# Altium footprint library USBridge.PcbLib: 26 footprints (part 2 of 2)
Each footprint in its own frame and in the unit in brackets; x right, y up, seen from the top. Pads: shape width x height; smd on the part's side, far side on the other; paste and mask are expansions set on the pad; w line width, h text height; cw(c..) or ccw(c..) is an arc to the next point about the centre after c.
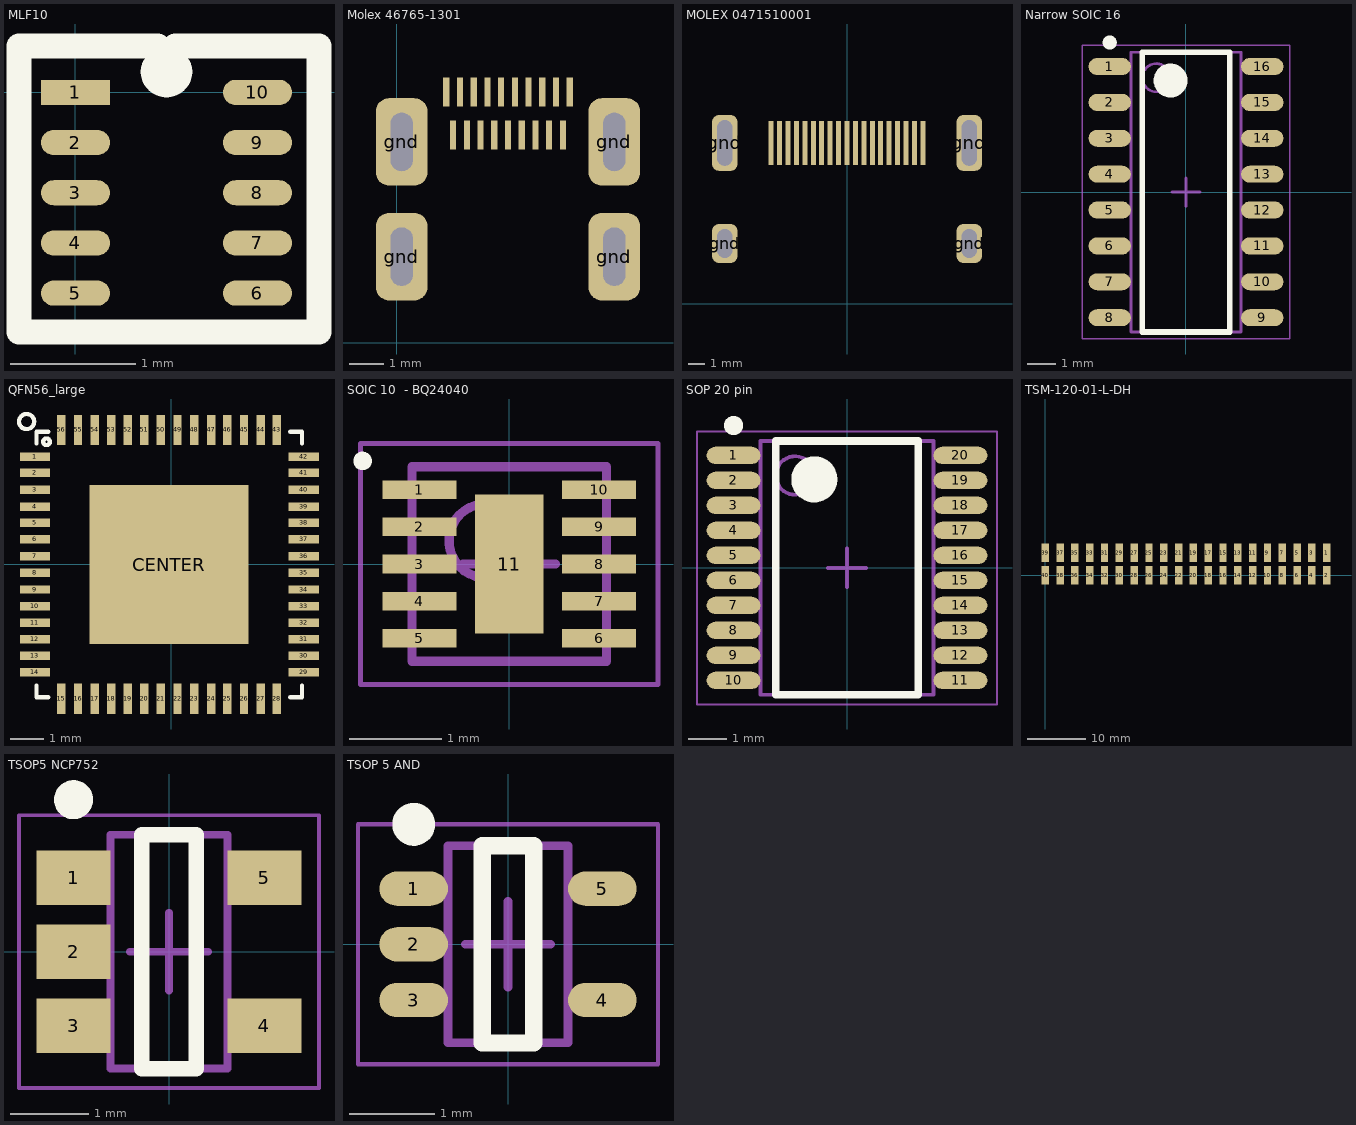
[diagram p1: the footprints below, top view; thin cyan lines are the x and y axes]

## MLF10 [mm] "MIC23250 light load buck converter 2 output"
pads (10):
  rect 0.55x0.2 smd: 1(0,0)
  oval 0.55x0.2 smd: 2(0,-0.4) 3(0,-0.8) 4(0,-1.2) 5(0,-1.6) 6(1.45,-1.6) 7(1.45,-1.2) 8(1.45,-0.8) 9(1.45,-0.4) 10(1.45,0)
Top Overlay:
  lines w0.2: -0.45,-1.91 -0.45,0.37 0.655,0.37 0.825,0.2 cw(c0.725,0.166) 0.625,0.2 0.795,0.37 1.94,0.37 1.94,-1.91 -0.45,-1.91

## Molex 46765-1301 [mm] "Micro HDMI"
height 4
pads (23):
  rect 0.18x0.85 smd: 1(5.05,7.31) 2(4.85,6.06) 3(4.65,7.31) 4(4.45,6.06) 5(4.25,7.31) 6(4.05,6.06) 7(3.85,7.31) 8(3.65,6.06) 9(3.45,7.31) 10(3.25,6.06) 11(3.05,7.31) 12(2.85,6.06) 13(2.65,7.31) 14(2.45,6.06) 15(2.25,7.31) 16(2.05,6.06) 17(1.85,7.31) 18(1.65,6.06) 19(1.45,7.31)
  rrect50% 1.5x2.55 hole 0.65 slot 1.7 at 90 deg: gnd(0.15,2.51) gnd(0.15,5.86) gnd(6.35,2.51) gnd(6.35,5.86)
3D body: height 2.92, standoff -0.6, extent 0,0 6.5,7.5

## MOLEX 0471510001 [mm] "HDMI connector"
height 7
pads (23):
  rect 0.3x2.6 smd: 1(4.5,9.55) 2(4,9.55) 3(3.5,9.55) 4(3,9.55) 5(2.5,9.55) 6(2,9.55) 7(1.5,9.55) 8(1,9.55) 9(0.5,9.55) 10(0,9.55) 11(-0.5,9.55) 12(-1,9.55) 13(-1.5,9.55) 14(-2,9.55) 15(-2.5,9.55) 16(-3,9.55) 17(-3.5,9.55) 18(-4,9.55) 19(-4.5,9.55)
  rrect50% 1.5x2.3 hole 0.9 slot 1.7 at 90 deg: gnd(-7.25,3.59) gnd(7.25,3.59)
  rrect50% 1.5x3.3 hole 0.9 slot 2.7 at 90 deg: gnd(-7.25,9.55) gnd(7.25,9.55)
3D body: height 6.28, standoff -2.1, extent -7.5,-1 7.5,11.15

## Narrow SOIC 16 [mm] "SI8641 narrow digital isolator"
height 1.75
pads (16):
  oval 1.5x0.6 smd: 1(-2.7,4.445) 2(-2.7,3.175) 3(-2.7,1.905) 4(-2.7,0.635) 5(-2.7,-0.635) 6(-2.7,-1.905) 7(-2.7,-3.175) 8(-2.7,-4.445) 9(2.7,-4.445) 10(2.7,-3.175) 11(2.7,-1.905) 12(2.7,-0.635) 13(2.7,0.635) 14(2.7,1.905) 15(2.7,3.175) 16(2.7,4.445)
Top Overlay:
  circle w0.6: c-0.55,3.95 r0.3
  circle w0.25: c-2.7,5.295 r0.125
  lines w0.2: -1.55,-4.95 1.55,-4.95 1.55,4.95 -1.55,4.95 -1.55,-4.95
Mechanical 13:
  circle w0.1: c-1.05,4.05 r0.5
  lines w0.1: -1.95,-4.95 1.95,-4.95 1.95,4.95 -1.95,4.95 -1.95,-4.95
Mechanical 15:
  lines w0.05: -3.675,-5.2 3.675,-5.2 3.675,5.2 -3.675,5.2 -3.675,-5.2
  lines w0.1: -0.5,0 0.5,0 ; 0,-0.5 0,0.5
3D body: height 1.75, standoff 0.1, extent -1.95,-4.95 1.95,4.95

## QFN56_large [mil] "Intan_RHD2000 RHD2132 QFN56"
pads (57):
  rect 36x10 smd: 1(-161.73,127.53) 2(-161.73,108.53) 3(-161.73,88.53) 4(-161.73,68.53) 5(-161.73,49.53) 6(-161.73,29.53) 7(-161.73,9.53) 8(-161.73,-10.31) 9(-161.73,-30) 10(-161.73,-49.69) 11(-161.73,-69.37) 12(-161.73,-89.06) 13(-161.73,-108.74) 14(-161.73,-128.43) 29(157.72,-128.43) 30(157.72,-108.74) 31(157.72,-89.06) 32(157.72,-69.37) 33(157.72,-49.69) 34(157.72,-30) 35(157.72,-10.31) 36(157.72,9.53) 37(157.72,29.53) 38(157.72,49.53) 39(157.72,68.53) 40(157.72,88.53) 41(157.72,108.53) 42(157.72,127.53)
  rect 10x36 smd: 15(-130.24,-159.92) 16(-110.55,-159.92) 17(-90.87,-159.92) 18(-71.18,-159.92) 19(-51.5,-159.92) 20(-31.81,-159.92) 21(-12.13,-159.92) 22(7.72,-159.92) 23(27.72,-159.92) 24(47.72,-159.92) 25(66.72,-159.92) 26(86.72,-159.92) 27(106.72,-159.92) 28(125.72,-159.92) 43(125.72,159.53) 44(106.72,159.53) 45(86.72,159.53) 46(66.72,159.53) 47(47.72,159.53) 48(27.72,159.53) 49(7.72,159.53) 50(-12.13,159.53) 51(-31.81,159.53) 52(-51.5,159.53) 53(-71.18,159.53) 54(-90.87,159.53) 55(-110.55,159.53) 56(-130.24,159.53)
  rect 189x189 smd: CENTER(-2.28,-0.47)
Top Overlay:
  circle w5: c-171.57,169.53 r9
  circle w5: c-147.95,145.53 r4
  lines w5: -159.76,-144.17 -159.76,-157.95 -145.98,-157.95 ; -159.76,143.53 -159.76,157.53 -145.98,157.53 ; 141.72,-157.95 155.72,-157.95 155.72,-144.17 ; 141.72,157.53 155.72,157.53 155.72,143.53

## SOIC 10  - BQ24040 [mm] "Battery charger IC BQ24040"
height 0.8
pads (11):
  rect 0.8x0.2 smd: 1(-0.97,0.8) 2(-0.97,0.4) 3(-0.97,0) 4(-0.97,-0.4) 5(-0.97,-0.8) 6(0.97,-0.8) 7(0.97,-0.4) 8(0.97,0) 9(0.97,0.4) 10(0.97,0.8)
  rect 0.74x1.5 smd: 11(0,0)
Top Overlay:
  circle w0.1: c-1.582,1.112 r0.05
Mechanical 13:
  circle w0.1: c-0.25,0.25 r0.4
  lines w0.1: -1.05,-1.05 -1.05,1.05 1.05,1.05 1.05,-1.05 -1.05,-1.05
Mechanical 15:
  lines w0.05: -1.605,-1.3 -1.605,1.3 1.605,1.3 1.605,-1.3 -1.605,-1.3
  lines w0.1: -0.5,0 0.5,0 ; 0,-0.5 0,0.5
3D body: height 0.8, standoff 0.1, extent -1.05,-1.05 1.05,1.05

## SOP 20 pin [mm] "LVDS 4 channel SN65LVDT41"
height 1.2
pads (20):
  oval 1.4x0.45 smd: 1(-2.95,2.925) 2(-2.95,2.275) 3(-2.95,1.625) 4(-2.95,0.975) 5(-2.95,0.325) 6(-2.95,-0.325) 7(-2.95,-0.975) 8(-2.95,-1.625) 9(-2.95,-2.275) 10(-2.95,-2.925) 11(2.95,-2.925) 12(2.95,-2.275) 13(2.95,-1.625) 14(2.95,-0.975) 15(2.95,-0.325) 16(2.95,0.325) 17(2.95,0.975) 18(2.95,1.625) 19(2.95,2.275) 20(2.95,2.925)
Top Overlay:
  circle w0.25: c-2.95,3.7 r0.125
  circle w0.6: c-0.85,2.3 r0.3
  lines w0.2: -1.85,-3.3 -1.85,3.3 1.85,3.3 1.85,-3.3 -1.85,-3.3
Mechanical 13:
  circle w0.1: c-1.35,2.4 r0.5
  lines w0.1: -2.25,-3.3 -2.25,3.3 2.25,3.3 2.25,-3.3 -2.25,-3.3
Mechanical 15:
  lines w0.05: -3.9,-3.55 -3.9,3.55 3.9,3.55 3.9,-3.55 -3.9,-3.55
  lines w0.1: -0.5,0 0.5,0 ; 0,-0.5 0,0.5
3D body: height 1.2, standoff 0.1, extent -2.25,-3.3 2.25,3.3

## TSM-120-01-L-DH [mm] "40 pin surface mount right angle header"
pads (40):
  rect 1.27x3.18 smd: 1(48.26,3.81) 2(48.26,0) 3(45.72,3.81) 4(45.72,0) 5(43.18,3.81) 6(43.18,0) 7(40.64,3.81) 8(40.64,0) 9(38.1,3.81) 10(38.1,0) 11(35.56,3.81) 12(35.56,0) 13(33.02,3.81) 14(33.02,0) 15(30.48,3.81) 16(30.48,0) 17(27.94,3.81) 18(27.94,0) 19(25.4,3.81) 20(25.4,0) 21(22.86,3.81) 22(22.86,0) 23(20.32,3.81) 24(20.32,0) 25(17.78,3.81) 26(17.78,0) 27(15.24,3.81) 28(15.24,0) 29(12.7,3.81) 30(12.7,0) 31(10.16,3.81) 32(10.16,0) 33(7.62,3.81) 34(7.62,0) 35(5.08,3.81) 36(5.08,0) 37(2.54,3.81) 38(2.54,0) 39(0,3.81) 40(0,0)

## TSOP5 NCP752 [mm] "NCP752 200 mA, Ultra-Low  Quiescent Current, IQ 12  A,  Ultra-Low Noise, Low  Dropout Regulator"
height 1.1
pads (5):
  rect 0.95x0.7 smd: 1(-1.225,0.95) 2(-1.225,0) 3(-1.225,-0.95) 4(1.225,-0.95) 5(1.225,0.95)
Top Overlay:
  circle w0.25: c-1.225,1.95 r0.125
  lines w0.2: -0.35,-1.5 -0.35,1.5 0.35,1.5 0.35,-1.5 -0.35,-1.5
Mechanical 13:
  lines w0.1: -0.75,-1.5 -0.75,1.5 0.75,1.5 0.75,-1.5 -0.75,-1.5
Mechanical 15:
  lines w0.05: -1.925,-1.75 -1.925,1.75 1.925,1.75 1.925,-1.75 -1.925,-1.75
  lines w0.1: -0.5,0 0.5,0 ; 0,-0.5 0,0.5
3D body: height 1.1, standoff 0.1, extent -0.75,-1.5 0.75,1.5

## TSOP 5 AND [mm] "AND gate 74LVCIG08GW"
height 1.1
pads (5):
  oval 0.8x0.4 smd: 1(-1.1,0.65) 2(-1.1,0) 3(-1.1,-0.65) 4(1.1,-0.65) 5(1.1,0.65)
Top Overlay:
  circle w0.25: c-1.1,1.4 r0.125
  lines w0.2: -0.3,-1.15 0.3,-1.15 0.3,1.15 -0.3,1.15 -0.3,-1.15
Mechanical 13:
  lines w0.1: -0.7,-1.15 0.7,-1.15 0.7,1.15 -0.7,1.15 -0.7,-1.15
Mechanical 15:
  lines w0.05: -1.75,-1.4 1.75,-1.4 1.75,1.4 -1.75,1.4 -1.75,-1.4
  lines w0.1: -0.5,0 0.5,0 ; 0,-0.5 0,0.5
3D body: height 1.1, standoff 0.1, extent -0.7,-1.15 0.7,1.15